# EAGLE library part MCD_0.5/4-G1-2.5 (library Traficon)
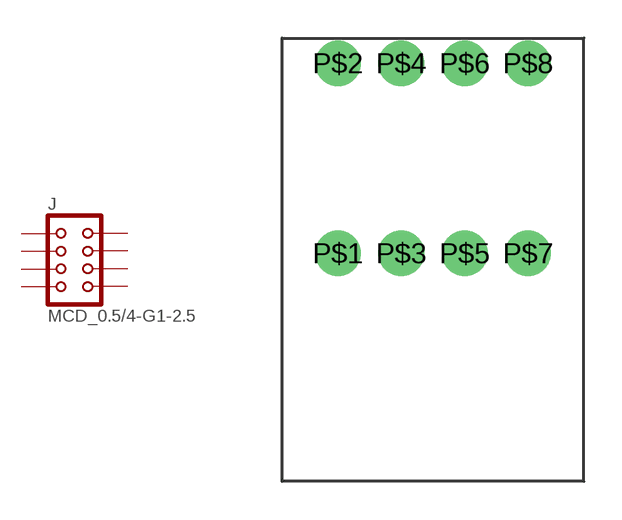
[diagram p152: symbol with the pads of MCD_0.5/4-G1-2.5; footprint MCD_0.5/4-G1-2.5]

Designator prefix J

## MCD_0.5/4-G1-2.5  [MCD_0.5/4-G1-2.5]
P$1  P$1  pas
P$2  P$2  pas
P$3  P$3  pas
P$4  P$4  pas
P$5  P$5  pas
P$6  P$6  pas
P$7  P$7  pas
P$8  P$8  pas

## Footprint MCD_0.5/4-G1-2.5 (pad centres in mm)
drill 1.2 round: P$1 -2.88,1.38; P$2 -2.88,8.88; P$3 -0.38,1.38; P$4 -0.38,8.88; P$5 2.12,1.38; P$6 2.12,8.88; P$7 4.62,1.38; P$8 4.62,8.88